# Altium schematic symbol library ssmaster_1.SchLib: 22 symbols
Pins are listed as number, name and electrical type; pins without a type are passive.

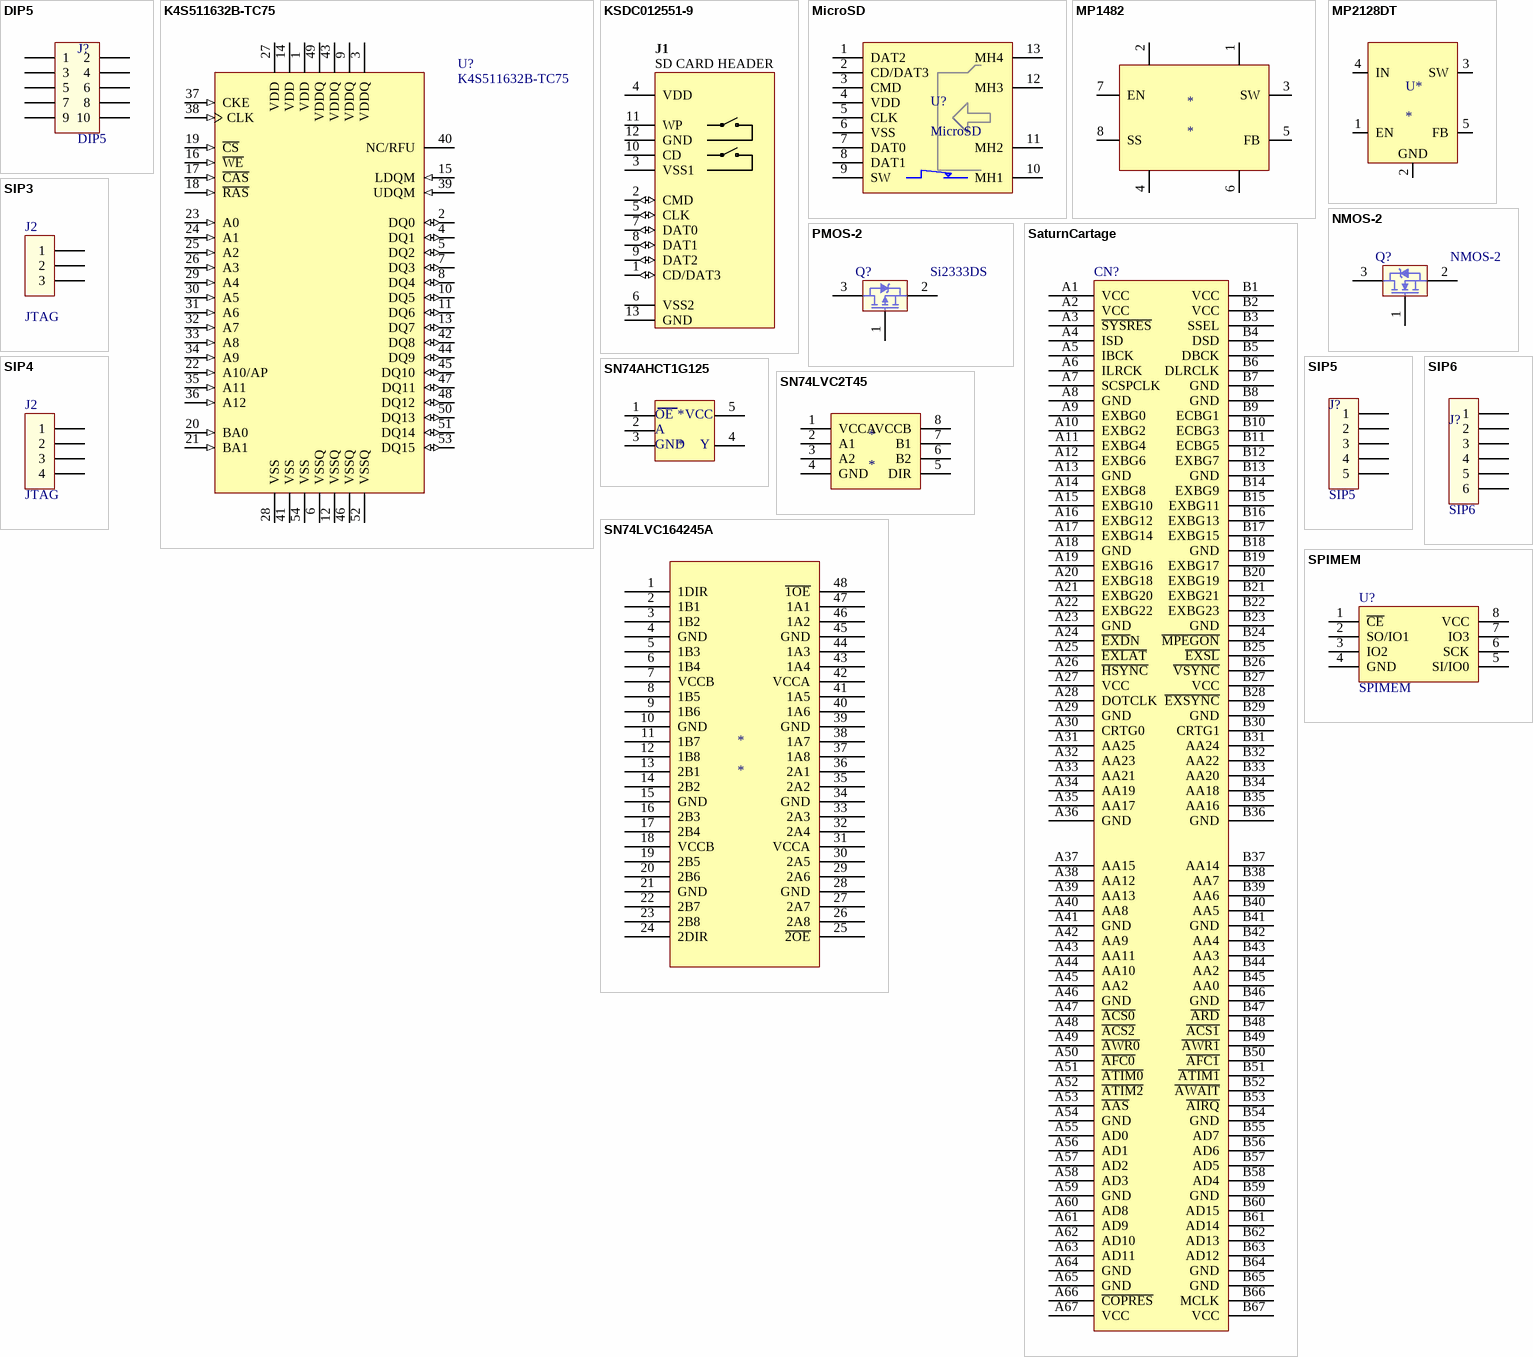
[diagram p0: symbols DIP5 to SPIMEM]

## DIP5
designator J?
pins: 1, 2, 3, 4, 5, 6, 7, 8, 9, 10

## K4S511632B-TC75
designator U?
512Mb Synchronous High Data Rate DRAM, 8Mb x 16Bit x 4 Banks, 54-Pin TSOP; Frequency: 133MHz (max); RowAddress: A0-A12; ColumnAddress: A0-A9; Published: 11-Oct-2004; LatestRevisionDate: 13-Apr-2006; LatestRevisionNote: IPC-7351 Footprint Added.; DatasheetVersion: rev1.1, Feb-2004; PackageVersion: Aug-2004; PackageReference: 54_TSOP2_400AF; Publisher: Altium Limited; PackageDescription: 54-Pin Small Outline Package 0.8 mm Pitch; ComponentLink1Description: Manufacturer Link; ComponentLink1URL: http://www.samsung.com; ComponentLink2Description: Datasheet; ComponentLink2URL: http://www.samsung.com/Products/Semiconductor/DRAM/SDRAM/SDRAMcomponent/512Mbit/K4S510432B/ds_sdr_512mb_b-die_x4x8x16_11.pdf
footprint 54_TSOP2_400AF_N (SOP, 54-Leads, Body 22.5x10.16mm, Pitch 0.8mm, IPC Medium Density)
footprint 54_TSOP2_400AF_L (SOP, 54-Leads, Body 22.5x10.16mm, Pitch 0.8mm, IPC High Density)
footprint 54_TSOP2_400AF_M (SOP, 54-Leads, Body 22.5x10.16mm, Pitch 0.8mm, IPC Low Density)
pins: 1 VDD (power) "Power for the input buffers and the core logic.", 2 DQ0 (io) "Data inputs/outputs are multiplexed on the same pins.", 3 VDDQ (power) "Data Output Power; Isolated power supply for the output buffers to improve noise immunity.", 4 DQ1 (io) "Data inputs/outputs are multiplexed on the same pins.", 5 DQ2 (io) "Data inputs/outputs are multiplexed on the same pins.", 6 VSSQ (power) "Data Output Ground; Isolated ground for the output buffers to improve noise immunity.", 7 DQ3 (io) "Data inputs/outputs are multiplexed on the same pins.", 8 DQ4 (io) "Data inputs/outputs are multiplexed on the same pins.", 9 VDDQ (power) "Data Output Power; Isolated power supply for the output buffers to improve noise immunity.", 10 DQ5 (io) "Data inputs/outputs are multiplexed on the same pins.", 11 DQ6 (io) "Data inputs/outputs are multiplexed on the same pins.", 12 VSSQ (power) "Data Output Ground; Isolated ground for the output buffers to improve noise immunity.", 13 DQ7 (io) "Data inputs/outputs are multiplexed on the same pins.", 14 VDD (power) "Power for the input buffers and the core logic.", 15 LDQM (in) "Data input/output mask for DQ0-DQ7", 16 ~{WE} (in) "Write enable; Enables write operation and row precharge.", 17 ~{CAS} (in) "Column address strobe; Latches column addresses on the positive going edge of the CLK with CAS low.", 18 ~{RAS} (in) "Row address strobe; Latches row addresses on the positive going edge of the CLK with RAS low.", 19 ~{CS} (in) "Chip select; Disables or enables device operation.", 20 BA0 (in) "Bank select address", 21 BA1 (in) "Bank select address", 22 A10/AP (in) "Row/column addresses are multiplexed on the same pins.", 23 A0 (in) "Row/column addresses are multiplexed on the same pins.", 24 A1 (in) "Row/column addresses are multiplexed on the same pins.", 25 A2 (in) "Row/column addresses are multiplexed on the same pins.", 26 A3 (in) "Row/column addresses are multiplexed on the same pins.", 27 VDD (power) "Power for the input buffers and the core logic.", 28 VSS (power) "Ground for the input buffers and the core logic.", 29 A4 (in) "Row/column addresses are multiplexed on the same pins.", 30 A5 (in) "Row/column addresses are multiplexed on the same pins.", 31 A6 (in) "Row/column addresses are multiplexed on the same pins.", 32 A7 (in) "Row/column addresses are multiplexed on the same pins.", 33 A8 (in) "Row/column addresses are multiplexed on the same pins.", 34 A9 (in) "Row/column addresses are multiplexed on the same pins.", 35 A11 (in) "Row/column addresses are multiplexed on the same pins.", 36 A12 (in) "Row/column addresses are multiplexed on the same pins.", 37 CKE (in) "Clock enable; Masks system clock to freeze operation from the next clock cycle.", 38 CLK (in) "System clock; Active on the positive going edge.", 39 UDQM (in) "Data input/output mask for DQ8-DQ15", 40 NC/RFU "No connection/reserved for future use.", 41 VSS (power) "Ground for the input buffers and the core logic.", 42 DQ8 (io) "Data inputs/outputs are multiplexed on the same pins.", 43 VDDQ (power) "Data Output Power; Isolated power supply for the output buffers to improve noise immunity.", 44 DQ9 (io) "Data inputs/outputs are multiplexed on the same pins.", 45 DQ10 (io) "Data inputs/outputs are multiplexed on the same pins.", 46 VSSQ (power) "Data Output Ground; Isolated ground for the output buffers to improve noise immunity.", 47 DQ11 (io) "Data inputs/outputs are multiplexed on the same pins.", 48 DQ12 (io) "Data inputs/outputs are multiplexed on the same pins.", 49 VDDQ (power) "Data Output Power; Isolated power supply for the output buffers to improve noise immunity.", 50 DQ13 (io) "Data inputs/outputs are multiplexed on the same pins.", 51 DQ14 (io) "Data inputs/outputs are multiplexed on the same pins.", 52 VSSQ (power) "Data Output Ground; Isolated ground for the output buffers to improve noise immunity.", 53 DQ15 (io) "Data inputs/outputs are multiplexed on the same pins.", 54 VSS (power) "Ground for the input buffers and the core logic."

## KSDC012551-9
designator J1, comment SD CARD HEADER
Secure Digital Card Socket; Max Current: mA; Connector type: Header; Mounting Technology: Surface Mount; Status: Production; Category: Connector
footprint KSDC012551
pins: 1 CD/DAT3 (io), 2 CMD (io), 3 VSS1 (power), 4 VDD (power), 5 CLK (io), 6 VSS2 (power), 7 DAT0 (io), 8 DAT1 (io), 9 DAT2 (io), 10 CD (oc), 11 WP (oc), 12 GND (power), 13 GND (power)

## MicroSD
designator U?
footprint MicroSD-1 (MicroSD)
pins: 1 DAT2, 2 CD/DAT3, 3 CMD, 4 VDD, 5 CLK, 6 VSS, 7 DAT0, 8 DAT1, 9 SW, 10 MH1, 11 MH2, 12 MH3, 13 MH4

## MP1482
designator *
pins: 1 BS, 2 IN (power), 3 SW, 4 GND (power), 5 FB, 6 COMP, 7 EN, 8 SS

## MP2128DT
designator U*
MPS DC-DC convert
footprint SOT23-5
pins: 1 EN, 2 GND (power), 3 SW, 4 IN (power), 5 FB

## NMOS-2
designator Q?
P-Channel Power MOSFET; Note: Pin 4 not drawn and electrically connected to Pin 2.; Published: 8-Jun-2000; LatestRevisionDate: 17-Jul-2002; LatestRevisionNote: Re-released for DXP Platform.; DatasheetDocument: PD-9.390D; PackageReference: TO-220AB; Publisher: Altium Limited; Code_JEDEC: TO-220-AB; ComponentLink1Description: Manufacturer Link; ComponentLink1URL: http://www.irf.com/
footprint SOT-23
pins: 1, 2, 3

## PMOS-2
designator Q?, comment Si2333DS
P-Channel Power MOSFET; Note: Pin 4 not drawn and electrically connected to Pin 2.; Published: 8-Jun-2000; LatestRevisionDate: 17-Jul-2002; LatestRevisionNote: Re-released for DXP Platform.; DatasheetDocument: PD-9.390D; PackageReference: TO-220AB; Publisher: Altium Limited; Code_JEDEC: TO-220-AB; ComponentLink1Description: Manufacturer Link; ComponentLink1URL: http://www.irf.com/
footprint SOT-23
pins: 1, 2, 3

## SaturnCartage
designator CN?  (value not drawn)
footprint Edge Connector134
pins: A1 VCC, A2 VCC, A3 ~{SYSRES}, A4 ISD, A5 IBCK, A6 ILRCK, A7 SCSPCLK, A8 GND, A9 EXBG0, A10 EXBG2, A11 EXBG4, A12 EXBG6, A13 GND, A14 EXBG8, A15 EXBG10, A16 EXBG12, A17 EXBG14, A18 GND, A19 EXBG16, A20 EXBG18, A21 EXBG20, A22 EXBG22, A23 GND, A24 ~{EXD}N, A25 ~{EXLAT}, A26 ~{HSYNC}, A27 VCC, A28 DOTCLK, A29 GND, A30 CRTG0, A31 AA25, A32 AA23, A33 AA21, A34 AA19, A35 AA17, A36 GND, A37 AA15, A38 AA12, A39 AA13, A40 AA8, A41 GND, A42 AA9, A43 AA11, A44 AA10, A45 AA2, A46 GND, A47 ~{ACS0}, A48 ~{ACS2}, A49 ~{AWR0}, A50 ~{AFC0}, A51 ~{ATIM0}, A52 ~{ATIM2}, A53 ~{AAS}, A54 GND, A55 AD0, A56 AD1, A57 AD2, A58 AD3, A59 GND, A60 AD8, A61 AD9, A62 AD10, A63 AD11, A64 GND, A65 GND, A66 ~{COPRES}, A67 VCC, B1 VCC, B2 VCC, B3 SSEL, B4 DSD, B5 DBCK, B6 DLRCLK, B7 GND, B8 GND, B9 ECBG1, B10 ECBG3, B11 ECBG5, B12 EXBG7, B13 GND, B14 EXBG9, B15 EXBG11, B16 EXBG13, B17 EXBG15, B18 GND, B19 EXBG17, B20 EXBG19, B21 EXBG21, B22 EXBG23, B23 GND, B24 ~{MPEGON}, B25 ~{EXSL}, B26 ~{VSYNC}, B27 VCC, B28 ~{EXSYNC}, B29 GND, B30 CRTG1, B31 AA24, B32 AA22, B33 AA20, B34 AA18, B35 AA16, B36 GND, B37 AA14, B38 AA7, B39 AA6, B40 AA5, B41 GND, B42 AA4, B43 AA3, B44 AA2, B45 AA0, B46 GND, B47 ~{ARD}, B48 ~{ACS1}, B49 ~{AWR1}, B50 ~{AFC1}, B51 ~{ATIM1}, B52 ~{AWAIT}, B53 ~{AIRQ}, B54 GND, B55 AD7, B56 AD6, B57 AD5, B58 AD4, B59 GND, B60 AD15, B61 AD14, B62 AD13, B63 AD12, B64 GND, B65 GND, B66 MCLK, B67 VCC

## SIP3
designator J2, comment JTAG
footprint SIP3
pins: 1, 2, 3

## SIP4
designator J2, comment JTAG
footprint SIP4
pins: 1, 2, 3, 4

## SIP5
designator J?
pins: 1, 2, 3, 4, 5

## SIP6
designator J?
pins: 1, 2, 3, 4, 5, 6

## SN74AHCT1G125
designator *
pins: 1 ~{OE}, 2 A, 3 GND, 4 Y, 5 VCC
text: OE

## SN74LVC2T45
designator *
pins: 1 VCCA, 2 A1, 3 A2, 4 GND, 5 DIR, 6 B2, 7 B1, 8 VCCB

## SN74LVC164245A
designator *
pins: 1 1DIR, 2 1B1, 3 1B2, 4 GND (power), 5 1B3, 6 1B4, 7 VCCB (power), 8 1B5, 9 1B6, 10 GND (power), 11 1B7, 12 1B8, 13 2B1, 14 2B2, 15 GND (power), 16 2B3, 17 2B4, 18 VCCB (power), 19 2B5, 20 2B6, 21 GND (power), 22 2B7, 23 2B8, 24 2DIR, 25 ~{2OE}, 26 2A8, 27 2A7, 28 GND (power), 29 2A6, 30 2A5, 31 VCCA (power), 32 2A4, 33 2A3, 34 GND (power), 35 2A2, 36 2A1, 37 1A8, 38 1A7, 39 GND (power), 40 1A6, 41 1A5, 42 VCCA (power), 43 1A4, 44 1A3, 45 GND (power), 46 1A2 (power), 47 1A1, 48 ~{1OE}

## SPIMEM
designator U?
footprint SOIC-8
pins: 1 ~{CE}, 2 SO/IO1, 3 IO2, 4 GND (power), 5 SI/IO0, 6 SCK, 7 IO3, 8 VCC (power)

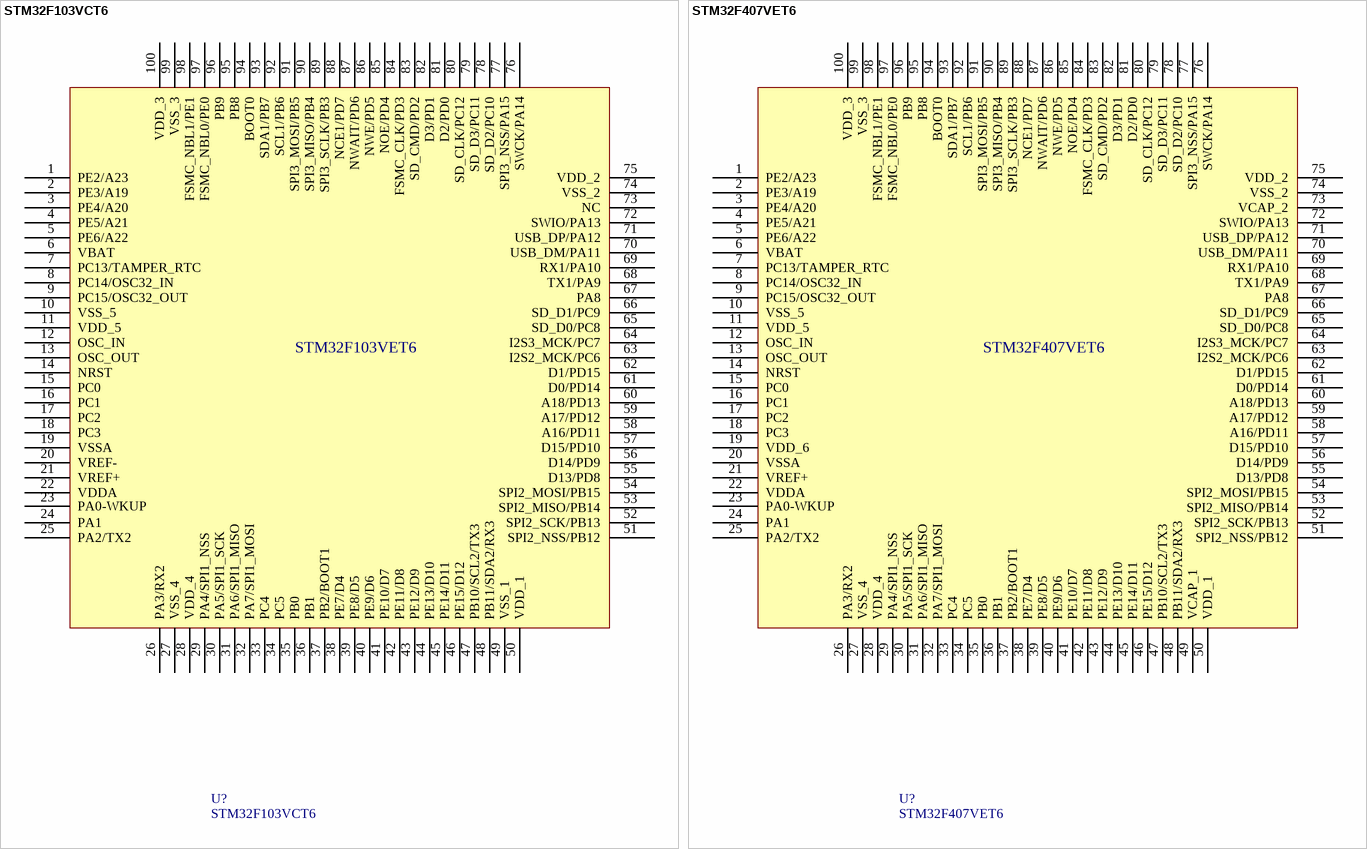
[diagram p1: symbols STM32F103VCT6 to STM32F407VET6]

## STM32F103VCT6
designator U?
footprint TQFP-100
pins: 1 PE2/A23, 2 PE3/A19, 3 PE4/A20, 4 PE5/A21, 5 PE6/A22, 6 VBAT, 7 PC13/TAMPER_RTC, 8 PC14/OSC32_IN, 9 PC15/OSC32_OUT, 10 VSS_5, 11 VDD_5, 12 OSC_IN, 13 OSC_OUT, 14 NRST, 15 PC0, 16 PC1, 17 PC2, 18 PC3, 19 VSSA, 20 VREF-, 21 VREF+, 22 VDDA, 23 PA0-WKUP, 24 PA1, 25 PA2/TX2, 26 PA3/RX2, 27 VSS_4, 28 VDD_4, 29 PA4/SPI1_NSS, 30 PA5/SPI1_SCK, 31 PA6/SPI1_MISO, 32 PA7/SPI1_MOSI, 33 PC4, 34 PC5, 35 PB0, 36 PB1, 37 PB2/BOOT1, 38 PE7/D4, 39 PE8/D5, 40 PE9/D6, 41 PE10/D7, 42 PE11/D8, 43 PE12/D9, 44 PE13/D10, 45 PE14/D11, 46 PE15/D12, 47 PB10/SCL2/TX3, 48 PB11/SDA2/RX3, 49 VSS_1, 50 VDD_1, 51 SPI2_NSS/PB12, 52 SPI2_SCK/PB13, 53 SPI2_MISO/PB14, 54 SPI2_MOSI/PB15, 55 D13/PD8, 56 D14/PD9, 57 D15/PD10, 58 A16/PD11, 59 A17/PD12, 60 A18/PD13, 61 D0/PD14, 62 D1/PD15, 63 I2S2_MCK/PC6, 64 I2S3_MCK/PC7, 65 SD_D0/PC8, 66 SD_D1/PC9, 67 PA8, 68 TX1/PA9, 69 RX1/PA10, 70 USB_DM/PA11, 71 USB_DP/PA12, 72 SWIO/PA13, 73 NC, 74 VSS_2, 75 VDD_2, 76 SWCK/PA14, 77 SPI3_NSS/PA15, 78 SD_D2/PC10, 79 SD_D3/PC11, 80 SD_CLK/PC12, 81 D2/PD0, 82 D3/PD1, 83 SD_CMD/PD2, 84 FSMC_CLK/PD3, 85 NOE/PD4, 86 NWE/PD5, 87 NWAIT/PD6, 88 NCE1/PD7, 89 SPI3_SCLK/PB3, 90 SPI3_MISO/PB4, 91 SPI3_MOSI/PB5, 92 SCL1/PB6, 93 SDA1/PB7, 94 BOOT0, 95 PB8, 96 PB9, 97 FSMC_NBL0/PE0, 98 FSMC_NBL1/PE1, 99 VSS_3, 100 VDD_3
text: STM32F103VET6

## STM32F407VET6
designator U?
footprint TQFP-100
pins: 1 PE2/A23, 2 PE3/A19, 3 PE4/A20, 4 PE5/A21, 5 PE6/A22, 6 VBAT, 7 PC13/TAMPER_RTC, 8 PC14/OSC32_IN, 9 PC15/OSC32_OUT, 10 VSS_5, 11 VDD_5, 12 OSC_IN, 13 OSC_OUT, 14 NRST, 15 PC0, 16 PC1, 17 PC2, 18 PC3, 19 VDD_6, 20 VSSA, 21 VREF+, 22 VDDA, 23 PA0-WKUP, 24 PA1, 25 PA2/TX2, 26 PA3/RX2, 27 VSS_4, 28 VDD_4, 29 PA4/SPI1_NSS, 30 PA5/SPI1_SCK, 31 PA6/SPI1_MISO, 32 PA7/SPI1_MOSI, 33 PC4, 34 PC5, 35 PB0, 36 PB1, 37 PB2/BOOT1, 38 PE7/D4, 39 PE8/D5, 40 PE9/D6, 41 PE10/D7, 42 PE11/D8, 43 PE12/D9, 44 PE13/D10, 45 PE14/D11, 46 PE15/D12, 47 PB10/SCL2/TX3, 48 PB11/SDA2/RX3, 49 VCAP_1, 50 VDD_1, 51 SPI2_NSS/PB12, 52 SPI2_SCK/PB13, 53 SPI2_MISO/PB14, 54 SPI2_MOSI/PB15, 55 D13/PD8, 56 D14/PD9, 57 D15/PD10, 58 A16/PD11, 59 A17/PD12, 60 A18/PD13, 61 D0/PD14, 62 D1/PD15, 63 I2S2_MCK/PC6, 64 I2S3_MCK/PC7, 65 SD_D0/PC8, 66 SD_D1/PC9, 67 PA8, 68 TX1/PA9, 69 RX1/PA10, 70 USB_DM/PA11, 71 USB_DP/PA12, 72 SWIO/PA13, 73 VCAP_2, 74 VSS_2, 75 VDD_2, 76 SWCK/PA14, 77 SPI3_NSS/PA15, 78 SD_D2/PC10, 79 SD_D3/PC11, 80 SD_CLK/PC12, 81 D2/PD0, 82 D3/PD1, 83 SD_CMD/PD2, 84 FSMC_CLK/PD3, 85 NOE/PD4, 86 NWE/PD5, 87 NWAIT/PD6, 88 NCE1/PD7, 89 SPI3_SCLK/PB3, 90 SPI3_MISO/PB4, 91 SPI3_MOSI/PB5, 92 SCL1/PB6, 93 SDA1/PB7, 94 BOOT0, 95 PB8, 96 PB9, 97 FSMC_NBL0/PE0, 98 FSMC_NBL1/PE1, 99 VSS_3, 100 VDD_3

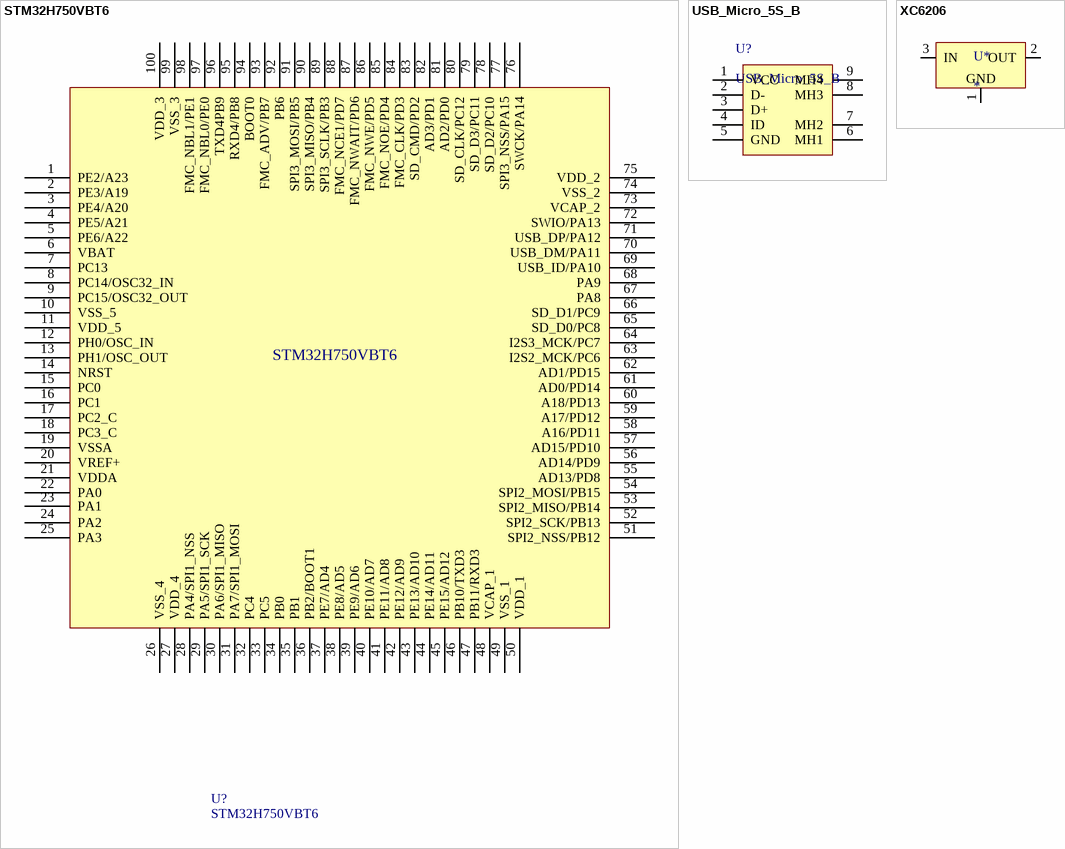
[diagram p2: symbols STM32H750VBT6 to XC6206]

## STM32H750VBT6
designator U?
footprint TQFP-100
pins: 1 PE2/A23, 2 PE3/A19, 3 PE4/A20, 4 PE5/A21, 5 PE6/A22, 6 VBAT, 7 PC13, 8 PC14/OSC32_IN, 9 PC15/OSC32_OUT, 10 VSS_5, 11 VDD_5, 12 PH0/OSC_IN, 13 PH1/OSC_OUT, 14 NRST, 15 PC0, 16 PC1, 17 PC2_C, 18 PC3_C, 19 VSSA, 20 VREF+, 21 VDDA, 22 PA0, 23 PA1, 24 PA2, 25 PA3, 26 VSS_4, 27 VDD_4, 28 PA4/SPI1_NSS, 29 PA5/SPI1_SCK, 30 PA6/SPI1_MISO, 31 PA7/SPI1_MOSI, 32 PC4, 33 PC5, 34 PB0, 35 PB1, 36 PB2/BOOT1, 37 PE7/AD4, 38 PE8/AD5, 39 PE9/AD6, 40 PE10/AD7, 41 PE11/AD8, 42 PE12/AD9, 43 PE13/AD10, 44 PE14/AD11, 45 PE15/AD12, 46 PB10/TXD3, 47 PB11/RXD3, 48 VCAP_1, 49 VSS_1, 50 VDD_1, 51 SPI2_NSS/PB12, 52 SPI2_SCK/PB13, 53 SPI2_MISO/PB14, 54 SPI2_MOSI/PB15, 55 AD13/PD8, 56 AD14/PD9, 57 AD15/PD10, 58 A16/PD11, 59 A17/PD12, 60 A18/PD13, 61 AD0/PD14, 62 AD1/PD15, 63 I2S2_MCK/PC6, 64 I2S3_MCK/PC7, 65 SD_D0/PC8, 66 SD_D1/PC9, 67 PA8, 68 PA9, 69 USB_ID/PA10, 70 USB_DM/PA11, 71 USB_DP/PA12, 72 SWIO/PA13, 73 VCAP_2, 74 VSS_2, 75 VDD_2, 76 SWCK/PA14, 77 SPI3_NSS/PA15, 78 SD_D2/PC10, 79 SD_D3/PC11, 80 SD_CLK/PC12, 81 AD2/PD0, 82 AD3/PD1, 83 SD_CMD/PD2, 84 FMC_CLK/PD3, 85 FMC_NOE/PD4, 86 FMC_NWE/PD5, 87 FMC_NWAIT/PD6, 88 FMC_NCE1/PD7, 89 SPI3_SCLK/PB3, 90 SPI3_MISO/PB4, 91 SPI3_MOSI/PB5, 92 PB6, 93 FMC_ADV/PB7, 94 BOOT0, 95 RXD4/PB8, 96 TXD4PB9, 97 FMC_NBL0/PE0, 98 FMC_NBL1/PE1, 99 VSS_3, 100 VDD_3

## USB_Micro_5S_B
designator U?
USB micro female SMT with 4 fixed foot
footprint USB_MICRO_5S_B (USB Micro SMT 5S B)
footprint USB_MICRO_SMT_2PIN (USB MICRO SMT 2PIN)
pins: 1 VCC, 2 D-, 3 D+, 4 ID, 5 GND, 6 MH1, 7 MH2, 8 MH3, 9 MH4

## XC6206
designator U*
LDO
pins: 1 GND (power), 2 OUT (power), 3 IN (power)